# EAGLE library part MCP1640 (library SamacSys_Parts)
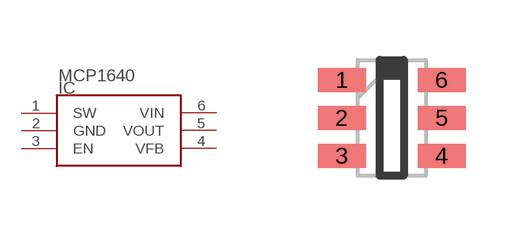
[diagram p3: symbol with the pads of SOT23-6; footprint SOT23-6]

Designator prefix IC

## MCP1640  [SOT23-6]
1  SW  pwr
2  GND  pwr
3  EN
4  VFB
5  VOUT  pwr
6  VIN  pwr

## Footprint SOT23-6 (pad centres in mm)
5-Lead SOT-23
smd 1.2 x 0.6: 1 -1.25,0.95; 2 -1.25,0; 3 -1.25,-0.95; 4 1.25,-0.95; 5 1.25,0; 6 1.25,0.95